# EAGLE library part PINHD-1X07 (library alexlib_plues)
PIN HEADER
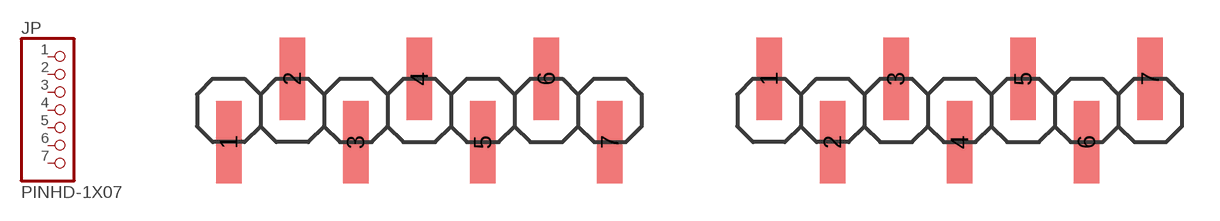
[diagram p1: symbol with the pads of 1X07SMD-REVERSE; footprints 1X07SMD-REVERSE, 1X07SMD]

Designator prefix JP

## PINHD-1X07_2.54-SMD-REVERSE  [1X07SMD-REVERSE]
1  1  pas
2  2  pas
3  3  pas
4  4  pas
5  5  pas
6  6  pas
7  7  pas

## PINHD-1X07_2.54-SMD  [1X07SMD]
Pads as for 1X07SMD-REVERSE

## Footprint 1X07SMD-REVERSE (pad centres in mm)
PIN HEADER - 2.54 SMD
smd 1.016 x 3.302: 1 -1.27,-1.27; 2 1.27,1.27; 3 3.81,-1.27; 4 6.35,1.27; 5 8.89,-1.27; 6 11.43,1.27; 7 13.97,-1.27

## Footprint 1X07SMD (pad centres in mm)
PIN HEADER - 2.54 SMD
smd 1.016 x 3.302: 1 -1.27,1.27; 2 1.27,-1.27; 3 3.81,1.27; 4 6.35,-1.27; 5 8.89,1.27; 6 11.43,-1.27; 7 13.97,1.27